# Altium footprint library RESISTORS_MKlib.PcbLib: 9 footprints
Each footprint in its own frame and in the unit in brackets; x right, y up, seen from the top. Pads: shape width x height; smd on the part's side, far side on the other; paste and mask are expansions set on the pad; w line width, h text height; cw(c..) or ccw(c..) is an arc to the next point about the centre after c.
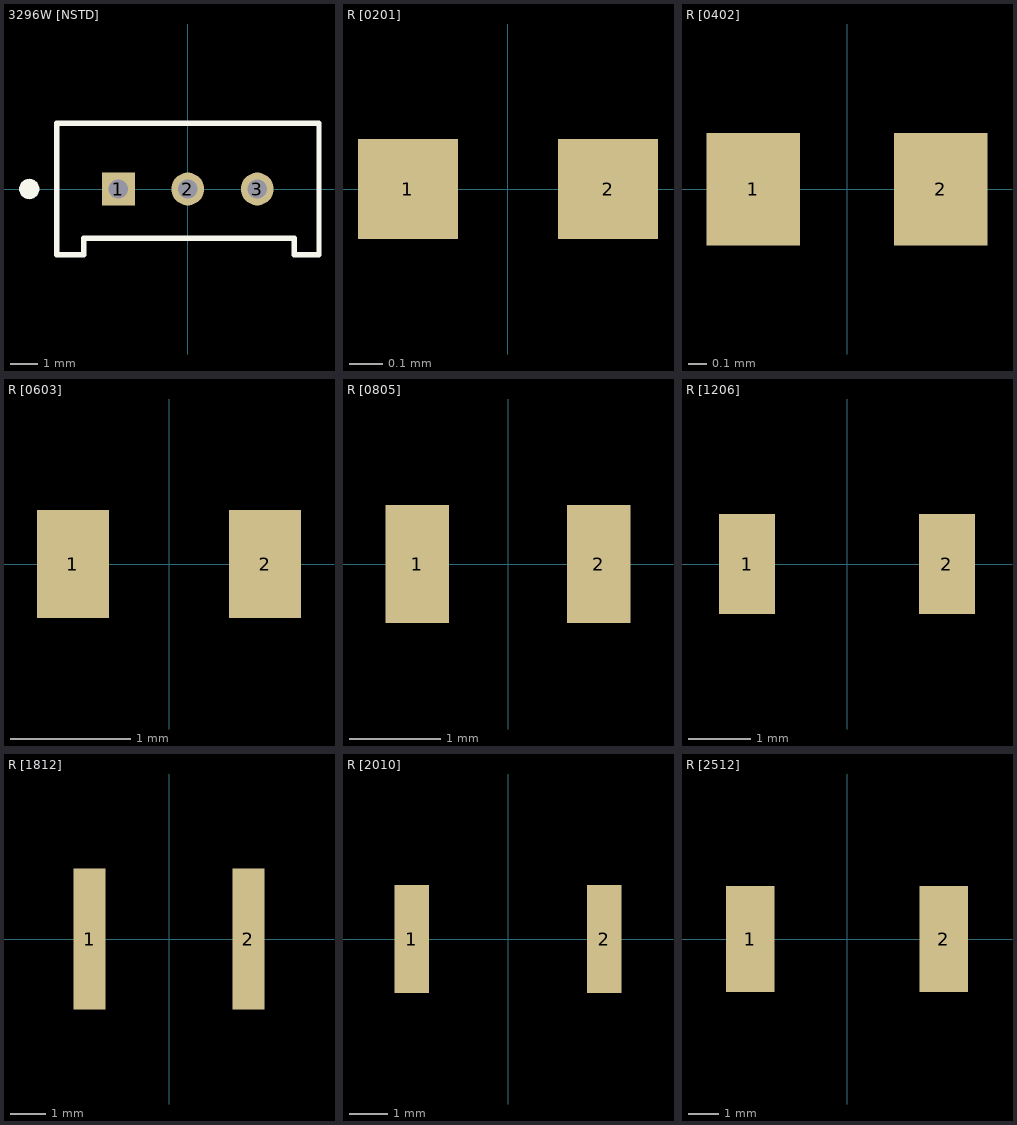
[diagram p0: the footprints below, top view; thin cyan lines are the x and y axes]

## 3296W [NSTD] [mm]
pads (4):
  rect 1.2x1.2 hole 0.71: 1(-2.54,0)
  round 1.2 hole 0.71: 2(0,0) 3(2.54,0)
  round 0.75 on Top Overlay: ""(-5.8,0)
Top Overlay:
  lines w0.2: -4.8,-2.4 -4.8,2.4 4.8,2.4 4.8,-2.4 3.9,-2.4 3.9,-1.8 -3.8,-1.8 -3.8,-2.4 -4.8,-2.4
3D body "3296W-1-103_NSTD.STEP": height 11.55, standoff -7.72, extent -4.765,-2.41 4.765,2.42

## R [0201] [mm]
pads (2):
  rect 0.3x0.3 smd: 1(-0.3,0) 2(0.3,0)
3D body "R_0201.STEP": height 0.23, standoff 0, extent -0.3,-0.15 0.3,0.15

## R [0402] [mm]
pads (2):
  rect 0.5x0.6 smd: 1(-0.5,0) 2(0.5,0)
3D body "R_0402.STEP": height 0.35, standoff 0, extent -0.5,-0.25 0.5,0.25

## R [0603] [mm]
pads (2):
  rect 0.6x0.9 smd: 1(-0.8,0) 2(0.8,0)
3D body "R_0603.STEP": height 0.45, standoff 0, extent -0.8,-0.4 0.8,0.4

## R [0805] [mm]
pads (2):
  rect 0.7x1.3 smd: 1(-1,0) 2(1,0)
3D body "R_0805.STEP": height 0.6, standoff 0, extent -1,-0.625 1,0.625

## R [1206] [mm]
pads (2):
  rect 0.9x1.6 smd: 1(-1.6,0) 2(1.6,0)
3D body "R_1206.STEP": height 0.6, standoff 0, extent -1.6,-0.8 1.6,0.8

## R [1812] [mm]
pads (2):
  rect 0.9x4 smd: 1(-2.25,0) 2(2.25,0)
3D body "R_1812.STEP": height 0.6, standoff 0, extent -2.25,-1.6 2.25,1.6

## R [2010] [mm]
pads (2):
  rect 0.9x2.8 smd: 1(-2.5,0) 2(2.5,0)
3D body "R_2010.STEP": height 0.6, standoff 0, extent -2.5,-1.25 2.5,1.25

## R [2512] [mm]
pads (2):
  rect 1.6x3.5 smd: 1(-3.2,0) 2(3.2,0)
3D body "R_2512.STEP": height 0.6, standoff 0, extent -3.2,-1.6 3.2,1.6